# EAGLE library part 5054330871 (library 505433-0871)
CONN HEADER SMD 8POS 1.25MM Source: Datasheet <https://www.molex.com/pdm_docs/sd/5054330871_sd.pdf>
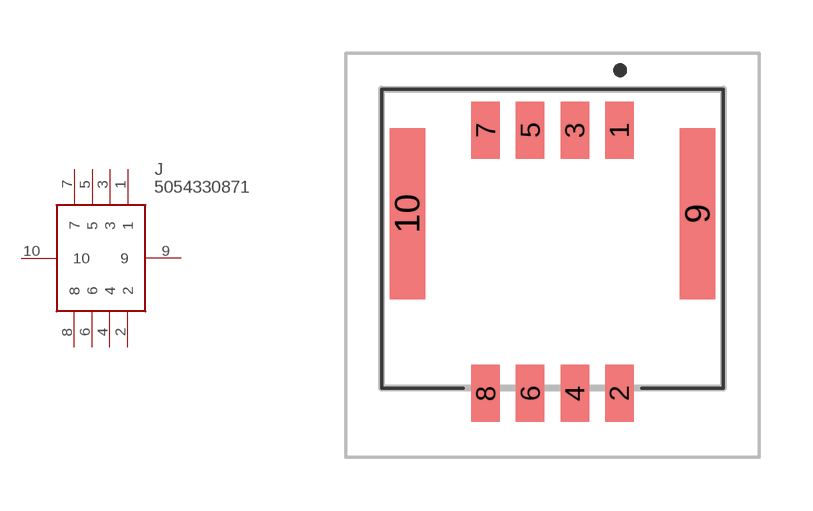
[diagram p0: symbol with the pads of 5054330871; footprint 5054330871]

Designator prefix J

## 5054330871 (Description: CONN HEADER SMD 8POS 1.25MM; Height: 7.25mm; Manufacturer_Name: Molex; Manufacturer_Part_Number: 5054330871)  [5054330871]
1  1
2  2
3  3
4  4
5  5
6  6
7  7
8  8
9  9
10  10

## Footprint 5054330871 (pad centres in mm)
5054330871-3
smd 0.8 x 1.6: 1 1.875,3.517; 2 1.875,-3.873; 3 0.625,3.517; 4 0.625,-3.873; 5 -0.625,3.517; 6 -0.625,-3.873; 7 -1.875,3.517; 8 -1.875,-3.873
smd 1 x 4.8: 9 4.075,1.177; 10 -4.075,1.177